# Altium footprint library batteries.PcbLib: 22 footprints (part 1 of 2)
Each footprint in its own frame and in the unit in brackets; x right, y up, seen from the top. Pads: shape width x height; smd on the part's side, far side on the other; paste and mask are expansions set on the pad; w line width, h text height; cw(c..) or ccw(c..) is an arc to the next point about the centre after c.
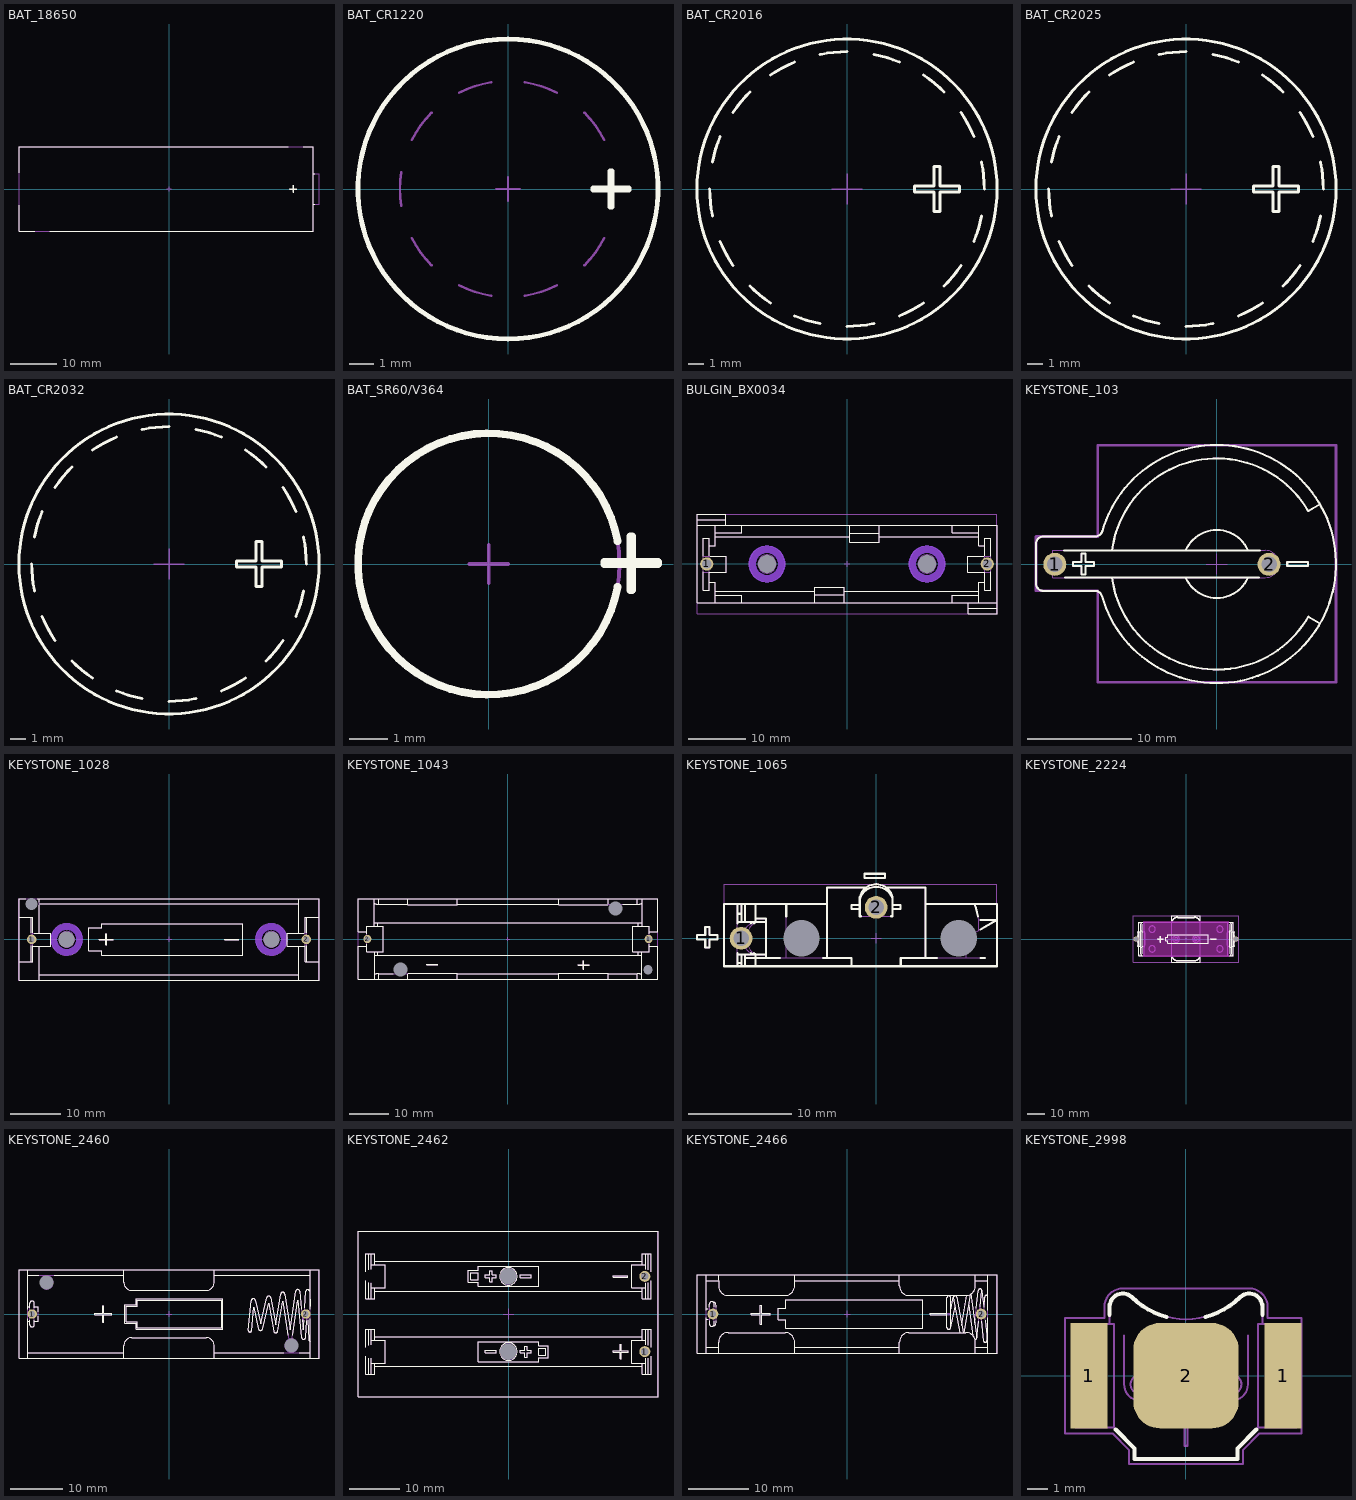
[diagram p0: the footprints below, top view; thin cyan lines are the x and y axes]

## BAT_18650 [mm] "18650, 12.5mm Diameter x 2mm  Height Lithium Coin Cells"
height 18.3
Top Overlay:
  lines w0.2: -32.65,-3.488 -32.65,-9.25 -29.249,-9.25 ; -32.65,3.488 -32.65,9.25 25.951,9.25 ; -25.951,-9.25 31.35,-9.25 31.35,9.25 29.249,9.25 ; 31.35,-3.3 31.754,-3.3 ; 31.35,3.3 31.754,3.3 ; 26.3,0 27,0 27,-0.7 27.1,-0.7 27.1,0 27.8,0 27.8,0.1 27.1,0.1 27.1,0.8 27,0.8 27,0.1 26.3,0.1 26.3,0
Mechanical 1:
  lines w0.1: 31.35,-3.3 32.65,-3.3 32.65,3.3 31.35,3.3 ; -32.65,-9.25 -32.65,9.25 31.35,9.25 31.35,-9.25 -32.65,-9.25
Mechanical 15:
  lines w0.1: -0.5,0 0,0 ; 0,-0.5 0,0 ; 0,0.5 0,0 ; 0.5,0 0,0
3D body "BAT_PANASONIC_NCR18650B.stp": height 18.86, standoff 0.38, extent -32.65,-9.25 32.65,9.25

## BAT_CR1220 [mm] "CR1210, 12.5mm Diameter x 2mm  Height Lithium Coin Cells"
height 2
Top Overlay:
  lines w0.2: 0,-6.25 cw(c0,0) 0,6.25 cw(c0,0) 0,-6.25 ; 3.547,-0.05 3.547,0.05 4.247,0.05 4.247,0.75 4.347,0.75 4.347,0.05 5.047,0.05 5.047,-0.05 4.347,-0.05 4.347,-0.75 4.247,-0.75 4.247,-0.05 3.547,-0.05
Mechanical 1:
  circle w0.1: c0,0 r6.25
  lines w0.1: -4.445,-0.704 cw(c0,0) -4.445,0.704 ; -4.01,-2.043 ccw(c0,0) -3.182,-3.182 ; -4.01,2.043 cw(c0,0) -3.182,3.182 ; -2.043,-4.01 ccw(c0,0) -0.704,-4.445 ; -2.043,4.01 cw(c0,0) -0.704,4.445 ; 0.704,-4.445 ccw(c0,0) 2.043,-4.01 ; 0.704,4.445 cw(c0,0) 2.043,4.01 ; 3.182,-3.182 ccw(c0,0) 4.01,-2.043 ; 3.182,3.182 cw(c0,0) 4.01,2.043
Mechanical 15:
  lines w0.1: -0.5,0 0,0 ; 0,-0.5 0,0 ; 0,0.5 0,0 ; 0.5,0 0,0
3D body "BAT_VARTA_CR1220.stp": height 2, standoff 0, extent -6.25,-6.25 6.25,6.25

## BAT_CR2016 [mm] "CR2016, 20mm Diameter x 1.6mm  Height Lithium Coin Cells"
height 1.6
Top Overlay:
  circle w0.2: c0,0 r10
  lines w0.2: -9.15,0 ccw(c0,0) -8.974,-1.785 ; -8.974,1.785 cw(c0,0) -8.454,3.502 ; -8.454,-3.502 ccw(c0,0) -7.608,-5.083 ; -7.608,5.083 cw(c0,0) -6.47,6.47 ; -6.47,-6.47 ccw(c0,0) -5.083,-7.608 ; -5.083,7.608 cw(c0,0) -3.502,8.454 ; -3.502,-8.454 ccw(c0,0) -1.785,-8.974 ; -1.785,8.974 cw(c0,0) 0,9.15 ; 0,-9.15 ccw(c0,0) 1.785,-8.974 ; 1.785,8.974 cw(c0,0) 3.502,8.454 ; 3.502,-8.454 ccw(c0,0) 5.083,-7.608 ; 5.083,7.608 cw(c0,0) 6.47,6.47 ; 6.47,-6.47 ccw(c0,0) 7.608,-5.083 ; 7.608,5.083 cw(c0,0) 8.454,3.502 ; 8.454,-3.502 ccw(c0,0) 8.974,-1.785 ; 8.974,1.785 cw(c0,0) 9.15,0 ; 4.5,-0.2 4.5,0.2 5.813,0.2 5.813,1.5 6.213,1.5 6.213,0.2 7.5,0.2 7.5,-0.2 6.213,-0.2 6.213,-1.5 5.813,-1.5 5.813,-0.2 4.5,-0.2
Mechanical 1:
  circle w0.1: c0,0 r10
  lines w0.1: -9.15,0 ccw(c0,0) -8.974,-1.785 ; -8.974,1.785 cw(c0,0) -8.454,3.502 ; -8.454,-3.502 ccw(c0,0) -7.608,-5.083 ; -7.608,5.083 cw(c0,0) -6.47,6.47 ; -6.47,-6.47 ccw(c0,0) -5.083,-7.608 ; -5.083,7.608 cw(c0,0) -3.502,8.454 ; -3.502,-8.454 ccw(c0,0) -1.785,-8.974 ; -1.785,8.974 cw(c0,0) 0,9.15 ; 0,-9.15 ccw(c0,0) 1.785,-8.974 ; 1.785,8.974 cw(c0,0) 3.502,8.454 ; 3.502,-8.454 ccw(c0,0) 5.083,-7.608 ; 5.083,7.608 cw(c0,0) 6.47,6.47 ; 6.47,-6.47 ccw(c0,0) 7.608,-5.083 ; 7.608,5.083 cw(c0,0) 8.454,3.502 ; 8.454,-3.502 ccw(c0,0) 8.974,-1.785 ; 8.974,1.785 cw(c0,0) 9.15,0 ; 4.5,-0.2 5.813,-0.2 5.813,-1.5 6.213,-1.5 6.213,-0.2 7.5,-0.2 7.5,0.2 6.213,0.2 6.213,1.5 5.813,1.5 5.813,0.2 4.5,0.2 4.5,-0.2
Mechanical 15:
  lines w0.1: -1,0 0,0 ; 0,-1 0,0 ; 0,1 0,0 ; 1,0 0,0
3D body "BAT_VARTA_CR2016.stp": height 1.6, standoff -0.1, extent -10,-10 10,10

## BAT_CR2025 [mm] "CR2025, 20mm Diameter x 2.5mm  Height Lithium Coin Cells"
height 2.5
Top Overlay:
  circle w0.2: c0,0 r10
  lines w0.2: -9.15,0 ccw(c0,0) -8.974,-1.785 ; -8.974,1.785 cw(c0,0) -8.454,3.502 ; -8.454,-3.502 ccw(c0,0) -7.608,-5.083 ; -7.608,5.083 cw(c0,0) -6.47,6.47 ; -6.47,-6.47 ccw(c0,0) -5.083,-7.608 ; -5.083,7.608 cw(c0,0) -3.502,8.454 ; -3.502,-8.454 ccw(c0,0) -1.785,-8.974 ; -1.785,8.974 cw(c0,0) 0,9.15 ; 0,-9.15 ccw(c0,0) 1.785,-8.974 ; 1.785,8.974 cw(c0,0) 3.502,8.454 ; 3.502,-8.454 ccw(c0,0) 5.083,-7.608 ; 5.083,7.608 cw(c0,0) 6.47,6.47 ; 6.47,-6.47 ccw(c0,0) 7.608,-5.083 ; 7.608,5.083 cw(c0,0) 8.454,3.502 ; 8.454,-3.502 ccw(c0,0) 8.974,-1.785 ; 8.974,1.785 cw(c0,0) 9.15,0 ; 4.5,-0.2 5.813,-0.2 5.813,-1.5 6.213,-1.5 6.213,-0.2 7.5,-0.2 7.5,0.2 6.213,0.2 6.213,1.5 5.813,1.5 5.813,0.2 4.5,0.2 4.5,-0.2
Mechanical 1:
  circle w0.1: c0,0 r10
  lines w0.1: -9.15,0 ccw(c0,0) -8.974,-1.785 ; -8.974,1.785 cw(c0,0) -8.454,3.502 ; -8.454,-3.502 ccw(c0,0) -7.608,-5.083 ; -7.608,5.083 cw(c0,0) -6.47,6.47 ; -6.47,-6.47 ccw(c0,0) -5.083,-7.608 ; -5.083,7.608 cw(c0,0) -3.502,8.454 ; -3.502,-8.454 ccw(c0,0) -1.785,-8.974 ; -1.785,8.974 cw(c0,0) 0,9.15 ; 0,-9.15 ccw(c0,0) 1.785,-8.974 ; 1.785,8.974 cw(c0,0) 3.502,8.454 ; 3.502,-8.454 ccw(c0,0) 5.083,-7.608 ; 5.083,7.608 cw(c0,0) 6.47,6.47 ; 6.47,-6.47 ccw(c0,0) 7.608,-5.083 ; 7.608,5.083 cw(c0,0) 8.454,3.502 ; 8.454,-3.502 ccw(c0,0) 8.974,-1.785 ; 8.974,1.785 cw(c0,0) 9.15,0 ; 4.5,-0.2 4.5,0.2 5.813,0.2 5.813,1.5 6.213,1.5 6.213,0.2 7.5,0.2 7.5,-0.2 6.213,-0.2 6.213,-1.5 5.813,-1.5 5.813,-0.2 4.5,-0.2
Mechanical 15:
  lines w0.1: -1,0 0,0 ; 0,-1 0,0 ; 0,1 0,0 ; 1,0 0,0
3D body "BAT_VARTA_CR2025.stp": height 2.5, standoff 0, extent -10,-10 10,10

## BAT_CR2032 [mm] "CR2032, 20mm Diameter x 32mm  Height Lithium Coin Cells"
height 3.2
Top Overlay:
  circle w0.2: c0,0 r10
  lines w0.2: -9.15,0 ccw(c0,0) -8.974,-1.785 ; -8.974,1.785 cw(c0,0) -8.454,3.502 ; -8.454,-3.502 ccw(c0,0) -7.608,-5.083 ; -7.608,5.083 cw(c0,0) -6.47,6.47 ; -6.47,-6.47 ccw(c0,0) -5.083,-7.608 ; -5.083,7.608 cw(c0,0) -3.502,8.454 ; -3.502,-8.454 ccw(c0,0) -1.785,-8.974 ; -1.785,8.974 cw(c0,0) 0,9.15 ; 0,-9.15 ccw(c0,0) 1.785,-8.974 ; 1.785,8.974 cw(c0,0) 3.502,8.454 ; 3.502,-8.454 ccw(c0,0) 5.083,-7.608 ; 5.083,7.608 cw(c0,0) 6.47,6.47 ; 6.47,-6.47 ccw(c0,0) 7.608,-5.083 ; 7.608,5.083 cw(c0,0) 8.454,3.502 ; 8.454,-3.502 ccw(c0,0) 8.974,-1.785 ; 8.974,1.785 cw(c0,0) 9.15,0 ; 4.5,-0.2 5.813,-0.2 5.813,-1.5 6.213,-1.5 6.213,-0.2 7.5,-0.2 7.5,0.2 6.213,0.2 6.213,1.5 5.813,1.5 5.813,0.2 4.5,0.2 4.5,-0.2
Mechanical 1:
  circle w0.1: c0,0 r10
  lines w0.1: -9.15,0 ccw(c0,0) -8.974,-1.785 ; -8.974,1.785 cw(c0,0) -8.454,3.502 ; -8.454,-3.502 ccw(c0,0) -7.608,-5.083 ; -7.608,5.083 cw(c0,0) -6.47,6.47 ; -6.47,-6.47 ccw(c0,0) -5.083,-7.608 ; -5.083,7.608 cw(c0,0) -3.502,8.454 ; -3.502,-8.454 ccw(c0,0) -1.785,-8.974 ; -1.785,8.974 cw(c0,0) 0,9.15 ; 0,-9.15 ccw(c0,0) 1.785,-8.974 ; 1.785,8.974 cw(c0,0) 3.502,8.454 ; 3.502,-8.454 ccw(c0,0) 5.083,-7.608 ; 5.083,7.608 cw(c0,0) 6.47,6.47 ; 6.47,-6.47 ccw(c0,0) 7.608,-5.083 ; 7.608,5.083 cw(c0,0) 8.454,3.502 ; 8.454,-3.502 ccw(c0,0) 8.974,-1.785 ; 8.974,1.785 cw(c0,0) 9.15,0 ; 4.5,-0.2 4.5,0.2 5.813,0.2 5.813,1.5 6.213,1.5 6.213,0.2 7.5,0.2 7.5,-0.2 6.213,-0.2 6.213,-1.5 5.813,-1.5 5.813,-0.2 4.5,-0.2
Mechanical 15:
  lines w0.1: -1,0 0,0 ; 0,-1 0,0 ; 0,1 0,0 ; 1,0 0,0
3D body "BAT_VARTA_CR2032.stp": height 3.2, standoff 0, extent -10,-10 10,10

## BAT_SR60/V364 [mm] "SR60, 6.8mm Diameter x 2.2mm  Height Silver Oxide Buttun Cell Battery"
height 3.2
Top Overlay:
  lines w0.2: 3.348,-0.59 cw(c0,0) 3.348,0.59 ; 3,0 3,0.05 3.675,0.05 3.675,0.725 3.725,0.725 3.725,0.05 4.4,0.05 4.4,0 3.725,0 3.725,-0.675 3.675,-0.675 3.675,0 3,0
Mechanical 1:
  circle w0.1: c0,0 r3.4
  lines w0.1: 3,0 3,0.05 3.675,0.05 3.675,0.725 3.725,0.725 3.725,0.05 4.4,0.05 4.4,0 3.725,0 3.725,-0.675 3.675,-0.675 3.675,0 3,0
Mechanical 15:
  lines w0.1: -0.5,0 0,0 ; 0,-0.5 0,0 ; 0,0.5 0,0 ; 0.5,0 0,0
3D body "BAT_VARTA_V 364 MF.stp": height 2.2, standoff 0, extent -3.4,-3.4 3.4,3.4

## BULGIN_BX0034 [mm] "THD Battery Holder 1 Cell AAA"
height 24
pads (4):
  round 2.3 hole 1.6: 1(-24.45,0) 2(24.45,0)
  round 1 hole 3.2 unplated mask+1.1: MECH(-13.95,0) MECH(13.95,0)
Bottom Layer keep-out:
  circle w1.29: c13.95,0 r2.555
  circle w1.29: c-13.95,0 r2.555
Top Overlay:
  lines w0.2: -26.15,6.75 -22.95,6.75 ; -26.15,7.7 -21.15,7.7 ; -25.05,1.375 -25.05,4.458 -24.05,4.458 -24.05,1.446 ; -24.05,-3.15 -22.95,-3.15 -22.95,-6.75 ; -24.05,-1.446 -24.05,-4.542 -25.05,-4.542 ; -24.05,3.15 -22.95,3.15 -22.95,6.75 ; -24.037,-1.442 -21.042,-1.442 -21.042,1.358 -23.813,1.358 ; -22.95,-5.45 -18.35,-5.45 -18.35,-6.75 ; -22.95,-4.75 -5.65,-4.75 ; -22.95,4.75 0.45,4.75 ; -22.95,5.45 -18.35,5.45 -18.35,6.75 ; -21.15,6.75 -21.15,8.65 -26.15,8.65 -26.15,-6.75 26.15,-6.75 ; -5.65,-6.75 -5.65,-4.012 -0.45,-4.012 -0.45,-6.75 ; -5.65,-5.35 -0.45,-5.35 ; -0.45,-4.75 22.95,-4.75 ; 0.45,5.35 5.65,5.35 ; 0.45,6.75 0.45,3.75 5.65,3.75 5.65,6.75 ; 5.65,4.75 22.95,4.75 ; 18.35,-6.75 18.35,-5.45 22.95,-5.45 ; 21.15,-7.7 26.15,-7.7 ; 21.15,-6.75 21.15,-8.65 26.15,-8.65 26.15,6.75 22.95,6.75 ; 22.95,-6.75 22.95,-3.15 24.05,-3.15 ; 22.95,5.45 18.35,5.45 18.35,6.75 ; 23.813,1.358 21.042,1.358 21.042,-1.442 24.037,-1.442 ; 24.05,-1.446 24.05,-4.542 25.05,-4.542 ; 24.05,1.446 24.05,4.458 25.05,4.458 25.05,1.375 ; 24.05,3.15 22.95,3.15 22.95,6.75 ; -25.05,-4.542 -25.05,-1.375 -25.05,-4.542 ; -22.95,6.75 -18.35,6.75 ; -18.35,6.75 18.35,6.75 ; 18.35,6.75 22.95,6.75 ; 25.05,-4.542 25.05,-1.375 25.05,-4.542
Mechanical 1:
  circle w0.1: c13.95,0 r1.6
  circle w0.1: c13.95,0 r3.1
  circle w0.1: c-13.95,0 r1.6
  circle w0.1: c-13.95,0 r3.1
  lines w0.1: -26.15,6.75 -22.95,6.75 ; -26.15,7.7 -21.15,7.7 ; -24.05,-3.15 -22.95,-3.15 -22.95,-6.75 ; -24.05,3.15 -22.95,3.15 -22.95,6.75 ; -22.95,-5.45 -18.35,-5.45 -18.35,-6.75 ; -22.95,-4.75 -5.65,-4.75 ; -22.95,4.75 0.45,4.75 ; -22.95,5.45 -18.35,5.45 -18.35,6.75 ; -21.15,6.75 -21.15,8.65 -26.15,8.65 -26.15,-6.75 26.15,-6.75 ; -5.65,-6.75 -5.65,-4.012 -0.45,-4.012 -0.45,-6.75 ; -5.65,-5.35 -0.45,-5.35 ; -0.45,-4.75 22.95,-4.75 ; 0.45,5.35 5.65,5.35 ; 0.45,6.75 0.45,3.75 5.65,3.75 5.65,6.75 ; 5.65,4.75 22.95,4.75 ; 18.35,-6.75 18.35,-5.45 22.95,-5.45 ; 21.15,-7.7 26.15,-7.7 ; 21.15,-6.75 21.15,-8.65 26.15,-8.65 26.15,6.75 22.95,6.75 ; 22.95,-6.75 22.95,-3.15 24.05,-3.15 ; 22.95,5.45 18.35,5.45 18.35,6.75 ; 24.05,3.15 22.95,3.15 22.95,6.75 ; -25.05,-4.542 -24.05,-4.542 -24.05,4.458 -25.05,4.458 ; -25.05,-4.542 -25.05,4.458 ; -25.05,-4.542 -25.05,-1.442 -21.042,-1.442 -21.042,1.358 -25.05,1.358 -25.05,4.458 ; -22.95,6.75 -18.35,6.75 ; -18.35,6.75 18.35,6.75 ; 18.35,6.75 22.95,6.75 ; 25.05,-4.542 25.05,-1.442 21.042,-1.442 21.042,1.358 25.05,1.358 25.05,4.458 ; 25.05,-4.542 25.05,4.458 ; 25.05,-4.542 24.05,-4.542 24.05,4.458 25.05,4.458
Mechanical 15:
  lines w0.1: -0.5,0 0,0 ; 0,-0.5 0,0 ; 0,0.5 0,0 ; 0.5,0 0,0 ; -26.15,-8.654 0.646,-8.654 26.139,-8.654 26.143,8.65 -26.15,8.65 -26.15,-8.654
3D body "BATH_BULGIN_BX0034.stp": height 23.9, standoff -3, extent -26.15,-8.65 26.15,8.65

## KEYSTONE_103 [mm] "Battery Holder for 2016, 2020, 2025, 2032 Lithium Coin Cells"
height 8.5
pads (2):
  round 2.2 hole 1.5: 1(-15.5,-0.031) 2(5,-0.031)
Top Overlay:
  lines w0.2: -14.615,1.302 4.115,1.302 ; -14.528,-1.302 4.028,-1.302 ; -10.016,-1.302 ccw(c0,0) 8.751,-5.043 9.877,-5.692 ; -10.016,1.302 cw(c0,0) 8.738,5.065 9.863,5.717 ; -2.985,-1.302 ccw(c0,0) 2.985,-1.302 ; -2.985,1.302 cw(c0,0) 2.985,1.302 ; -11.763,-0.2 -11.763,0.2 ; -11.763,-0.2 -12.563,-0.2 -12.563,-1 -12.963,-1 -12.963,-0.2 -13.763,-0.2 -13.763,0.2 -12.963,0.2 -12.963,1 -12.563,1 -12.563,0.2 -11.763,0.2 ; -11.763,-0.2 -11.763,0.2 ; 8.737,-0.2 8.737,0.2 ; 8.737,-0.2 6.737,-0.2 6.737,0.2 8.737,0.2 ; 8.737,-0.2 8.737,0.2 ; -17.3,-1.872 ccw(c-16.6,-1.872) -16.6,-2.572 -11.649,-2.572 cw(c-11.649,-3.272) -10.975,-3.083 ccw(c0,0) -10.958,3.143 cw(c-11.631,3.336) -11.631,2.636 -16.6,2.636 ccw(c-16.6,1.936) -17.3,1.936 -17.3,-1.872
Mechanical 1:
  lines w0.1: -10.016,-1.302 ccw(c0,0) 8.751,-5.043 9.877,-5.692 ; -10.016,1.302 cw(c0,0) 8.738,5.065 9.863,5.717 ; -2.985,-1.302 ccw(c0,0) 2.985,-1.302 ; -2.985,1.302 cw(c0,0) 2.985,1.302 ; -11.763,-0.2 -11.763,0.2 ; -11.763,-0.2 -11.763,0.2 ; -11.763,-0.2 -12.563,-0.2 -12.563,-1 -12.963,-1 -12.963,-0.2 -13.763,-0.2 -13.763,0.2 -12.963,0.2 -12.963,1 -12.563,1 -12.563,0.2 -11.763,0.2 ; 8.737,-0.2 8.737,0.2 ; 8.737,-0.2 8.737,0.2 ; 8.737,-0.2 6.737,-0.2 6.737,0.2 8.737,0.2 ; -17.3,-1.872 ccw(c-16.6,-1.872) -16.6,-2.572 -11.649,-2.572 cw(c-11.649,-3.272) -10.975,-3.083 ccw(c0,0) -10.958,3.143 cw(c-11.631,3.336) -11.631,2.636 -16.6,2.636 ccw(c-16.6,1.936) -17.3,1.936 -17.3,-1.872 ; -15.7,-1.302 4.636,-1.302 ccw(c4.636,0) 4.636,1.302 -15.7,1.302 -15.7,-1.302
Mechanical 15:
  lines w0.1: -1,0 0,0 ; 0,-1 0,0 ; 0,1 0,0 ; 1,0 0,0
  lines w0.254: -17.3,-2.575 -11.4,-2.575 -11.4,-11.325 11.4,-11.325 11.4,6.9 11.4,11.375 -11.4,11.375 -11.4,2.625 -17.3,2.625 -17.3,-2.575
3D body "BATH_KEYSTONE_103.stp": height 8.5, standoff -4.8, extent -17.3,-11.391 11.4,11.388

## KEYSTONE_1028 [mm] "THD Battery Holder for AA, LR6, HR6, L91 Cylindrical Batteties Size"
height 24
pads (5):
  round 1.9 hole 1.2: 1(-27.43,0) 2(27.43,0)
  round 1 hole 2.4 unplated mask+0.7: MECH(-27.43,7.09)
  round 1 hole 3.2 unplated mask+1.1: MECH(-20.445,0) MECH(20.445,0)
Bottom Layer keep-out:
  circle w1.29: c-20.445,0 r2.555
  circle w1.29: c20.445,0 r2.555
Top Overlay:
  lines w0.2: -29.972,-4.445 -27.254,-4.445 -27.254,-1.288 ; -29.972,4.445 -27.254,4.445 -27.254,1.288 ; -28.581,8.128 -29.972,8.128 -29.972,-8.128 29.972,-8.128 29.972,8.128 -26.279,8.128 ; -27.559,-4.445 -27.559,-1.294 ; -27.559,1.294 -27.559,4.445 ; -27.254,-1.359 -23.602,-1.359 -23.602,1.181 -26.887,1.181 ; -25.908,-8.128 -25.908,-1.359 ; -25.908,-7.112 25.908,-7.112 ; -25.908,1.181 -25.908,6.797 ; -25.908,7.383 -25.908,8.128 ; -25.88,7.112 25.908,7.112 ; 25.908,-8.128 25.908,-1.359 ; 25.908,1.181 25.908,8.128 ; 26.887,1.181 23.602,1.181 23.602,-1.359 27.254,-1.359 ; 27.254,-1.288 27.254,-4.445 29.972,-4.445 ; 27.254,1.288 27.254,4.445 29.972,4.445 ; 27.559,-4.445 27.559,-1.294 ; 27.559,1.294 27.559,4.445 ; -16.002,-2.28 -16.002,2.292 -13.462,2.292 -13.462,3.175 14.732,3.175 14.732,-3.175 -13.462,-3.175 -13.462,-2.28 -16.002,-2.28 ; -13.97,-0.076 -13.97,0.076 -12.636,0.076 -12.636,1.115 -12.484,1.115 -12.484,0.076 -11.151,0.076 -11.151,-0.076 -12.484,-0.076 -12.484,-1.115 -12.636,-1.115 -12.636,-0.076 -13.97,-0.076 ; 11.151,-0.076 13.97,-0.076 13.97,0.076 11.151,0.076 11.151,-0.076
Mechanical 1:
  circle w0.1: c20.447,0 r1.587
  circle w0.1: c-20.447,0 r1.587
  lines w0.1: -29.972,-4.445 -27.254,-4.445 -27.254,4.445 -29.972,4.445 ; -27.559,-4.445 -27.559,4.445 ; -27.254,-1.359 -23.602,-1.359 -23.602,1.181 -27.254,1.181 ; -25.908,-8.128 -25.908,-1.359 ; -25.908,-7.112 25.908,-7.112 ; -25.908,1.181 -25.908,8.128 ; -25.908,7.112 25.908,7.112 ; -23.602,-0.354 ccw(c-20.447,0) -23.602,0.354 ; 23.602,-0.354 cw(c20.447,0) 23.602,0.354 ; 25.908,-8.128 25.908,-1.359 ; 25.908,1.181 25.908,8.128 ; 27.254,-1.359 23.602,-1.359 23.602,1.181 27.254,1.181 ; 27.559,-4.445 27.559,4.445 ; 29.972,-4.445 27.254,-4.445 27.254,4.445 29.972,4.445 ; -29.972,-8.128 29.972,-8.128 29.972,8.128 -29.972,8.128 -29.972,-8.128 ; -16.002,-2.28 -13.462,-2.263 -13.462,-3.175 14.732,-3.175 14.732,3.175 -13.462,3.175 -13.462,2.292 -16.002,2.292 -16.002,-2.28 ; -13.97,-0.076 -12.636,-0.076 -12.636,-1.115 -12.484,-1.115 -12.484,-0.076 -11.151,-0.076 -11.151,0.076 -12.484,0.076 -12.484,1.115 -12.636,1.115 -12.636,0.076 -13.97,0.076 -13.97,-0.076 ; 11.151,-0.076 13.97,-0.076 13.97,0.076 11.151,0.076 11.151,-0.076
Mechanical 15:
  lines w0.1: -0.5,0 0,0 ; 0,-0.5 0,0 ; 0,0.5 0,0 ; 0.5,0 0,0 ; -29.975,-8.131 29.969,-8.131 29.969,8.125 -29.975,8.125 -29.975,-8.131
3D body "BATH_KEYSTONE_1028.stp": height 15.24, standoff -3.55, extent -29.972,-8.128 29.972,8.128

## KEYSTONE_1043 [mm] "THD Battery Holder for 18650 Cylindrical Batteties Size"
height 14.86
pads (5):
  round 2.1 hole 1.4: 1(36.11,0) 2(-36.11,0)
  round 1 hole 3.6 unplated mask+1.3: MECH(-27.6,-7.87) MECH(27.6,7.87)
  round 1 hole 2.4 unplated mask+0.7: MECH(35.98,-7.87)
Top Overlay:
  lines w0.2: -36.284,-1.905 -38.532,-1.905 -38.532,-10.325 38.532,-10.325 38.532,-1.905 36.284,-1.905 ; -36.284,-1.389 -36.284,-3.238 -32.004,-3.238 -32.004,3.238 -36.284,3.238 -36.284,1.389 ; -36.284,1.905 -38.532,1.905 -38.532,10.325 38.532,10.325 38.532,1.905 36.284,1.905 ; -34.417,-9.188 cw(c-33.379,-11.011) -33.147,-8.926 ; -34.417,-4.125 34.417,-4.125 ; -34.417,-3.238 -34.387,-10.325 ; -34.417,3.238 -34.417,10.325 ; -34.417,4.125 34.417,4.125 ; -34.417,9.188 ccw(c-33.379,11.011) -33.147,8.926 ; -33.401,-4.125 -33.401,-3.238 ; -33.401,3.238 -33.401,4.125 ; -33.147,-10.325 -33.147,-8.926 ; -33.147,10.325 -33.147,8.926 ; -29.473,-8.926 -33.147,-8.926 ; -25.781,-10.325 -25.781,-9.016 ; -25.781,8.926 -33.147,8.926 ; -25.781,10.325 -25.781,8.787 -13.081,8.787 -13.081,10.325 ; -25.655,-8.787 -13.081,-8.787 -13.081,-10.325 ; -13.081,-8.926 13.081,-8.926 ; -13.081,8.926 13.081,8.926 ; 13.081,-10.325 13.081,-8.787 25.781,-8.787 25.781,-10.325 ; 13.081,10.325 13.081,8.787 25.655,8.787 ; 25.781,-8.926 33.147,-8.926 ; 25.781,9.016 25.781,10.325 ; 29.473,8.926 33.147,8.926 ; 33.147,-10.325 33.147,-8.926 ; 33.147,10.325 33.147,8.926 ; 33.401,-4.125 33.401,-3.238 ; 33.401,3.238 33.409,4.125 ; 34.417,-10.325 34.417,-3.238 ; 34.417,-9.188 ccw(c33.379,-11.011) 33.147,-8.926 ; 34.417,9.188 cw(c33.379,11.011) 33.147,8.926 ; 34.438,3.238 34.438,10.325 ; 36.284,-1.389 36.284,-3.238 32.004,-3.238 32.004,3.238 36.284,3.238 36.284,1.389 ; -20.841,-6.672 -18.021,-6.672 -18.021,-6.52 -20.841,-6.52 -20.841,-6.672 ; 18.021,-6.748 18.021,-6.596 19.355,-6.596 19.355,-5.557 19.507,-5.557 19.507,-6.596 20.841,-6.596 20.841,-6.748 19.507,-6.748 19.507,-7.787 19.355,-7.787 19.355,-6.748 18.021,-6.748
Mechanical 1:
  lines w0.1: -36.284,-1.905 -38.532,-1.905 -38.532,-10.325 38.532,-10.325 38.532,-1.905 36.284,-1.905 ; -36.284,1.905 -38.532,1.905 -38.532,10.325 38.532,10.325 38.532,1.905 36.284,1.905 ; -34.417,-9.188 cw(c-33.379,-11.011) -33.147,-8.926 ; -34.417,-4.125 34.417,-4.125 ; -34.417,-3.238 -34.387,-10.325 ; -34.417,3.238 -34.417,10.325 ; -34.417,4.125 34.417,4.125 ; -34.417,9.188 ccw(c-33.379,11.011) -33.147,8.926 ; -33.401,-4.125 -33.401,-3.238 ; -33.401,3.238 -33.401,4.125 ; -33.147,-10.325 -33.147,-8.926 ; -33.147,10.325 -33.147,8.926 ; -25.781,-10.325 -25.781,-8.787 -13.081,-8.787 -13.081,-10.325 ; -25.781,-8.926 -33.147,-8.926 ; -25.781,8.926 -33.147,8.926 ; -25.781,10.325 -25.781,8.787 -13.081,8.787 -13.081,10.325 ; -13.081,-8.926 13.081,-8.926 ; -13.081,8.926 13.081,8.926 ; 13.081,-10.325 13.081,-8.787 25.781,-8.787 25.781,-10.325 ; 13.081,10.325 13.081,8.787 25.781,8.787 25.781,10.325 ; 25.781,-8.926 33.147,-8.926 ; 25.781,8.926 33.147,8.926 ; 33.147,-10.325 33.147,-8.926 ; 33.147,10.325 33.147,8.926 ; 33.401,-4.125 33.401,-3.238 ; 33.401,3.238 33.409,4.125 ; 34.417,-10.325 34.417,-3.238 ; 34.417,-9.188 ccw(c33.379,-11.011) 33.147,-8.926 ; 34.417,9.188 cw(c33.379,11.011) 33.147,8.926 ; 34.438,3.238 34.438,10.325 ; -36.284,-3.238 -32.004,-3.238 -32.004,3.238 -36.284,3.238 -36.284,-3.238 ; -20.841,-6.672 -18.021,-6.672 -18.021,-6.52 -20.841,-6.52 -20.841,-6.672 ; 18.021,-6.748 19.355,-6.748 19.355,-7.787 19.507,-7.787 19.507,-6.748 20.841,-6.748 20.841,-6.596 19.507,-6.596 19.507,-5.557 19.355,-5.557 19.355,-6.596 18.021,-6.596 18.021,-6.748 ; 32.004,-3.238 32.004,3.238 36.284,3.238 36.284,-3.238 32.004,-3.238
Mechanical 15:
  lines w0.05: -0.5,0 0,0 ; 0,-0.5 0,0 ; 0,0.5 0,0 ; 0.5,0 0,0
  lines w0.1: -38.525,-10.325 -38.525,-1.905 -38.525,10.325 38.539,10.325 38.539,-1.905 38.539,-10.325 -38.525,-10.325
3D body "BATH_KEYSTONE_1043.stp": height 14.86, standoff -3.56, extent -38.532,-10.325 38.532,10.325

## KEYSTONE_1065 [mm] "SMD Battery Holders for BR2012,CR2012,BR2016, CR2016, DL2016, BR2020, CL2020, BR2025, CR2025, DL2025, BR2032, CR2032, DL2032, ANSI 5000LC, IEC CR2016 Coin Cells"
height 25.4
pads (4):
  round 2.2 hole 1.5: 1(-13.08,0) 2(0,3)
  round 0.5 hole 3.5 unplated mask+1.5: HOLE(-7.24,0) HOLE(8,0)
Top Overlay:
  lines w0.2: -13.432,-2.713 -13.432,-1.45 ; -13.432,-2.375 -13.025,-2.375 -13.025,-1.587 ; -13.432,-1.587 -10.663,-1.587 ; -13.432,1.45 -13.432,3.332 ; -13.432,1.587 -10.663,1.587 ; -13.432,2.375 -13.025,2.375 -13.025,1.587 ; -13.048,-2.713 -13.048,-2.375 ; -13.048,2.375 -13.048,3.332 ; -12.681,-2.713 -12.681,-1.587 ; -12.681,-1.9 -9.34,-1.9 ; -12.681,1.587 -12.681,3.332 ; -12.137,-1.45 ccw(c-11.381,-0.214) -11.842,-1.588 ; -12.137,1.45 cw(c-11.381,0.214) -11.842,1.588 ; -11.816,-1.45 ccw(c-11.058,-0.21) -11.522,-1.587 ; -11.816,1.45 cw(c-11.058,0.21) -11.522,1.588 ; -11.679,-2.713 -11.679,-1.587 ; -11.679,1.587 -11.679,3.332 ; -11.679,1.91 -10.663,1.91 -10.663,-1.9 ; -8.707,2.1 -8.707,3.332 ; -5.14,-1.9 -2.37,-1.9 -2.37,-2.713 ; -4.758,-1.9 -4.758,4.907 -1.078,4.907 ; -4.758,3.332 -14.727,3.332 -14.727,-2.713 11.689,-2.713 11.689,3.332 4.767,3.332 ; -1.587,2.824 -2.375,2.824 -2.375,3.231 -1.587,3.231 ; -1.587,3.778 cw(c0,3.338) 1.588,3.78 ; -1.45,2.133 -1.587,2.133 -1.587,3.741 -1.587,3.991 cw(c0,3.602) 1.587,3.991 1.587,3.741 1.587,2.133 1.45,2.133 ; -0.008,5.236 0.008,5.236 ; 1.078,4.907 4.767,4.907 4.767,-1.9 ; 1.587,2.824 2.375,2.824 2.375,3.231 1.587,3.231 ; 2.38,-2.713 2.38,-1.9 5.9,-1.9 ; 9.51,3.332 cw(c0.005,-0.071) 9.865,2.1 ; 10.1,-1.9 10.517,-1.9 ; 10.1,0.866 10.517,1.106 11.689,1.783 10.1,1.783 ; -15.35,-0.1 -15.35,0.3 ; -15.35,-0.1 -16.15,-0.1 -16.15,-0.9 -16.55,-0.9 -16.55,-0.1 -17.35,-0.1 -17.35,0.3 -16.55,0.3 -16.55,1.1 -16.15,1.1 -16.15,0.3 -15.35,0.3 ; -15.35,-0.1 -15.35,0.3 ; 0.875,5.85 0.875,6.25 ; 0.875,5.85 -1.125,5.85 -1.125,6.25 0.875,6.25 ; 0.875,5.85 0.875,6.25
Mechanical 1:
  lines w0.1: -13.432,-2.713 -13.432,3.332 ; -13.432,-2.375 -13.025,-2.375 -13.025,-1.587 ; -13.432,-1.587 -10.663,-1.587 ; -13.432,1.587 -10.663,1.587 ; -13.432,2.375 -13.025,2.375 -13.025,1.587 ; -13.048,-2.713 -13.048,-2.375 ; -13.048,2.375 -13.048,3.332 ; -12.681,-2.713 -12.681,-1.587 ; -12.681,1.587 -12.681,3.332 ; -12.511,-0.21 ccw(c-11.058,-0.21) -11.522,-1.587 ; -12.511,-0.21 -12.511,0.21 cw(c-11.058,0.21) -11.522,1.588 ; -11.842,-1.588 cw(c-11.381,-0.214) -12.83,-0.214 -12.83,0.214 cw(c-11.381,0.214) -11.842,1.588 ; -11.679,-2.713 -11.679,-1.587 ; -11.679,-1.9 -2.37,-1.9 -2.37,-2.713 ; -11.679,1.587 -11.679,3.332 ; -11.679,1.91 -10.663,1.91 -10.663,-1.9 ; -8.707,-1.9 -8.707,3.332 ; -4.758,-1.9 -4.758,4.907 -1.078,4.907 ; -4.758,3.332 -14.727,3.332 -14.727,-2.713 11.689,-2.713 11.689,3.332 4.767,3.332 ; -1.587,2.824 -2.375,2.824 -2.375,3.231 -1.587,3.231 ; -1.587,3.778 cw(c0,3.338) 1.588,3.78 ; -0.008,5.236 0.008,5.236 ; 1.078,4.907 4.767,4.907 4.767,-1.9 ; 1.587,2.824 2.375,2.824 2.375,3.231 1.587,3.231 ; 2.38,-2.713 2.38,-1.9 10.517,-1.9 ; 8.717,-1.9 8.717,0.067 10.517,1.106 11.689,1.783 9.93,1.783 ; 9.51,3.332 cw(c0.005,-0.071) 9.93,1.783 ; 9.93,0.767 9.93,1.783 ; -15.35,-0.1 -15.35,0.3 ; -15.35,-0.1 -15.35,0.3 ; -15.35,-0.1 -16.15,-0.1 -16.15,-0.9 -16.55,-0.9 -16.55,-0.1 -17.35,-0.1 -17.35,0.3 -16.55,0.3 -16.55,1.1 -16.15,1.1 -16.15,0.3 -15.35,0.3 ; 0.875,5.85 0.875,6.25 ; 0.875,5.85 0.875,6.25 ; 0.875,5.85 -1.125,5.85 -1.125,6.25 0.875,6.25 ; -1.587,2.133 1.587,2.133 1.587,3.741 1.587,3.991 ccw(c0,3.602) -1.587,3.991 -1.587,3.741 -1.587,2.133
Mechanical 15:
  lines w0.1: -0.5,0 0.5,0 ; 0,-0.5 0,0.5 ; -14.725,-2.725 11.7,-2.725 11.7,5.25 -14.725,5.25 -14.725,-2.725
3D body "BATH_KEYSTONE_1065.stp": height 23.32, standoff -3.98, extent -14.727,-2.713 11.689,5.236

## KEYSTONE_2224 [mm] "THD Battery Holder for 1 Cell C Size"
height 24.61
pads (2):
  round 2.8 hole 2.1: 1(-28.17,0) 2(28.17,0)
Top Layer keep-out:
  region: -24,10 24,10 24,-10 -24,-10
Top Overlay:
  lines w0.2: -27.332,-1.536 ccw(c-3.522,0) -27.05,-3.962 ccw(c-49.003,0) -26.716,-0.974 ; -27.332,1.536 cw(c-3.522,0) -27.05,3.962 ; -27.053,-3.962 -25.732,-3.962 ccw(c-53.996,0) -25.732,3.962 -27.05,3.962 ; -26.716,0.974 ccw(c-49.003,0) -27.05,3.962 ; -26.587,-3.962 -26.587,-9.525 -24.35,-9.525 ; -26.587,3.962 -26.587,9.525 -24.35,9.525 ; -26.543,-3.962 ccw(c-54.806,0) -26.543,3.962 ; -25.732,-9.525 ccw(c-42.672,-5.957) -25.401,-4.775 ; -25.732,9.525 cw(c-42.672,5.957) -25.401,4.775 ; -24.921,-9.525 ccw(c-41.861,-5.957) -24.59,-4.775 ; -24.921,9.525 cw(c-41.861,5.957) -24.59,4.775 ; -24.59,-3.962 -24.35,-3.962 ; -24.59,3.962 -24.35,3.962 ; -7.938,-10.35 -7.938,-13.088 7.938,-13.088 7.938,-10.35 ; -7.938,10.35 -7.938,13.088 7.938,13.088 7.938,10.35 ; -7.801,-10.35 ccw(c-4.785,-8.79) -4.763,-12.186 ; -7.801,10.35 cw(c-4.785,8.79) -4.763,12.186 ; -7.646,-10.35 ccw(c-4.86,-8.706) -4.762,-11.939 ; -7.646,10.35 cw(c-4.86,8.706) -4.762,11.939 ; 7.646,-10.35 cw(c4.86,-8.706) 4.762,-11.939 ; 7.646,10.35 ccw(c4.86,8.706) 4.762,11.939 ; 7.801,-10.35 cw(c4.785,-8.79) 4.763,-12.186 ; 7.801,10.35 ccw(c4.785,8.79) 4.763,12.186 ; 24.35,-9.525 26.587,-9.525 26.587,-3.962 ; 24.35,-3.962 24.59,-3.962 ; 24.35,3.962 24.59,3.962 ; 24.35,9.525 26.587,9.525 26.587,3.962 ; 24.921,-9.525 cw(c41.861,-5.957) 24.59,-4.775 ; 24.921,9.525 ccw(c41.861,5.957) 24.59,4.775 ; 25.732,-9.525 cw(c42.672,-5.957) 25.401,-4.775 ; 25.732,9.525 ccw(c42.672,5.957) 25.401,4.775 ; 26.543,-3.962 cw(c54.806,0) 26.543,3.962 ; 26.716,-0.974 ccw(c49.003,0) 27.05,-3.962 ccw(c3.522,0) 27.332,-1.536 ; 26.716,0.974 cw(c49.003,0) 27.05,3.962 ; 27.053,-3.962 25.732,-3.962 cw(c53.996,0) 25.732,3.962 27.05,3.962 ; 27.332,1.536 ccw(c3.522,0) 27.05,3.962 ; -25.401,-4.775 -24.59,-4.775 ; -25.401,-4.775 -25.401,4.775 ; -25.401,4.775 -24.59,4.775 ; -24.59,-4.775 -24.59,4.775 ; -4.763,-12.186 -4.763,-11.939 ; -4.763,-12.186 4.763,-12.186 ; -4.763,-11.939 4.763,-11.939 ; -4.763,11.939 -4.763,12.186 ; -4.763,11.939 4.763,11.939 ; -4.763,12.186 4.763,12.186 ; 4.763,-12.186 4.763,-11.939 ; 4.763,11.939 4.763,12.186 ; 24.59,-4.775 25.401,-4.775 ; 24.59,-4.775 24.59,4.775 ; 24.59,4.775 25.401,4.775 ; 25.401,-4.775 25.401,4.775 ; -15.938,-0.127 -14.478,-0.127 -14.478,-1.714 -14.224,-1.714 -14.224,-0.127 -12.763,-0.127 -12.763,0.127 -14.224,0.127 -14.224,1.46 -14.478,1.46 -14.478,0.127 -15.938,0.127 -15.938,-0.127 ; -11.493,-0.953 -10.223,-0.953 -10.223,-2.349 12.636,-2.349 12.636,2.349 -10.223,2.349 -10.223,0.953 -11.493,0.953 -11.493,-0.953 ; 13.906,-0.127 13.906,0.127 17.081,0.127 17.081,-0.127 13.906,-0.127
Mechanical 1:
  circle w0.1: c19.05,5.563 r1.778
  circle w0.1: c5.55,0 r0.889
  circle w0.1: c5.55,0 r1.905
  circle w0.1: c19.05,-5.563 r1.778
  circle w0.1: c-5.55,0 r0.889
  circle w0.1: c-5.55,0 r1.905
  circle w0.1: c-19.05,5.563 r1.778
  circle w0.1: c-19.05,-5.563 r1.778
  lines w0.1: -27.362,-0.953 -28.755,-0.953 -28.755,0.953 -27.362,0.953 ; -27.053,-3.962 -25.732,-3.962 ccw(c-53.996,0) -25.732,3.962 -27.05,3.962 ; -26.587,-3.962 -26.587,-9.525 -7.938,-9.525 ; -26.587,3.962 -26.587,9.525 -7.938,9.525 ; -26.543,-3.962 ccw(c-54.806,0) -26.543,3.962 ; -25.732,-9.525 ccw(c-42.672,-5.957) -25.401,-4.775 ; -25.732,9.525 cw(c-42.672,5.957) -25.401,4.775 ; -24.921,-9.525 ccw(c-41.861,-5.957) -24.59,-4.775 ; -24.921,9.525 cw(c-41.861,5.957) -24.59,4.775 ; -24.59,-3.962 -23.35,-3.962 ccw(c-51.614,0) -23.35,3.962 -24.59,3.962 ; -23.412,-9.525 -23.412,-3.962 ; -23.412,3.962 -23.412,9.525 ; -7.938,-10.268 -7.843,-10.268 ccw(c-4.785,-8.79) -4.763,-12.186 ; -7.937,-9.703 ccw(c-4.86,-8.706) -4.762,-11.939 ; -7.938,-9.411 7.938,-9.411 ; -7.938,9.411 7.938,9.411 ; -7.937,9.703 cw(c-4.86,8.706) -4.762,11.939 ; -7.938,10.268 -7.843,10.268 cw(c-4.785,8.79) -4.763,12.186 ; 7.938,-10.268 7.843,-10.268 cw(c4.785,-8.79) 4.763,-12.186 ; 7.937,-9.703 cw(c4.86,-8.706) 4.762,-11.939 ; 7.938,-9.525 26.587,-9.525 26.587,-3.962 ; 7.938,9.525 26.587,9.525 26.587,3.962 ; 7.937,9.703 ccw(c4.86,8.706) 4.762,11.939 ; 7.938,10.268 7.843,10.268 ccw(c4.785,8.79) 4.763,12.186 ; 23.412,-9.525 23.412,-3.962 ; 23.412,3.962 23.412,9.525 ; 24.59,-3.962 23.35,-3.962 cw(c51.614,0) 23.35,3.962 24.59,3.962 ; 24.921,-9.525 cw(c41.861,-5.957) 24.59,-4.775 ; 24.921,9.525 ccw(c41.861,5.957) 24.59,4.775 ; 25.732,-9.525 cw(c42.672,-5.957) 25.401,-4.775 ; 25.732,9.525 ccw(c42.672,5.957) 25.401,4.775 ; 26.543,-3.962 cw(c54.806,0) 26.543,3.962 ; 27.053,-3.962 25.732,-3.962 cw(c53.996,0) 25.732,3.962 27.05,3.962 ; 27.362,-0.953 28.755,-0.953 28.755,0.953 27.362,0.953 ; -27.05,3.962 cw(c-49.003,0) -27.05,-3.962 cw(c-3.522,0) -27.05,3.962 ; -25.401,-4.775 -25.401,4.775 ; -25.401,-4.775 -24.59,-4.775 ; -25.401,4.775 -24.59,4.775 ; -24.59,-4.775 -24.59,4.775 ; -4.763,-12.186 4.763,-12.186 ; -4.763,-12.186 -4.763,-11.939 ; -4.763,-11.939 4.763,-11.939 ; -4.763,11.939 4.763,11.939 ; -4.763,11.939 -4.763,12.186 ; -4.763,12.186 4.763,12.186 ; 4.763,-12.186 4.763,-11.939 ; 4.763,11.939 4.763,12.186 ; 24.59,-4.775 24.59,4.775 ; 24.59,-4.775 25.401,-4.775 ; 24.59,4.775 25.401,4.775 ; 25.401,-4.775 25.401,4.775 ; 27.05,3.962 ccw(c49.003,0) 27.05,-3.962 ccw(c3.522,0) 27.05,3.962 ; -23.35,-4.254 ccw(c-53.697,0) -23.35,4.254 -23.097,4.255 cw(c-53.444,0) -23.097,-4.254 -23.35,-4.255 ; -15.938,-0.127 -15.938,0.127 -14.478,0.127 -14.478,1.46 -14.224,1.46 -14.224,0.127 -12.763,0.127 -12.763,-0.127 -14.224,-0.127 -14.224,-1.714 -14.478,-1.714 -14.478,-0.127 -15.938,-0.127 ; -11.493,-0.953 -11.493,0.953 -10.223,0.953 -10.223,2.349 12.636,2.349 12.636,-2.349 -10.223,-2.349 -10.223,-0.953 -11.493,-0.953 ; -7.938,-13.088 -7.938,13.088 7.938,13.088 7.938,-13.088 -7.938,-13.088 ; 13.906,-0.127 13.906,0.127 17.081,0.127 17.081,-0.127 13.906,-0.127 ; 23.097,-4.254 cw(c53.444,0) 23.097,4.254 23.35,4.255 ccw(c53.697,0) 23.35,-4.254 23.097,-4.255
Mechanical 15:
  lines w0.1: -0.5,0 0,0 ; 0,-0.5 0,0 ; 0,0.5 0,0 ; 0.5,0 0,0 ; -29.725,-13.075 29.725,-13.075 29.725,13.075 -29.725,13.075 -29.725,-13.075
3D body "BATH_KEYSTONE_2224.stp": height 25.05, standoff -9.34, extent -28.821,-13.081 28.822,13.082

## KEYSTONE_2460 [mm] "THD Battery Holder for AA, LR6, Cylindrical Batteties Size"
height 14.39
pads (4):
  round 1.8 hole 1.1: 1(-25.995,0) 2(25.995,0)
  round 1 hole 2.65 unplated mask+0.825: MECH(-23.24,5.995) MECH(23.24,-5.995)
Top Overlay:
  lines w0.2: -26.848,-8.445 -26.848,-0.914 ; -26.848,-7.378 -8.572,-7.378 ; -26.848,-1.372 -26.434,-1.372 ; -26.848,-1.333 -26.434,-1.333 ; -26.848,0.914 -26.848,8.445 ; -26.848,1.333 -26.434,1.333 ; -26.848,1.372 -26.434,1.372 ; -26.848,7.378 -24.719,7.378 ; -26.434,-1.17 -26.434,-2.019 ccw(c-26.002,-2.019) -25.57,-2.019 -25.57,-1.176 ; -26.434,1.17 -26.434,2.019 cw(c-26.002,2.019) -25.57,2.019 -25.57,1.176 ; -25.57,-1.372 -24.816,-1.372 -24.816,-0.415 ; -25.57,1.372 -24.816,1.372 -24.816,0.415 ; -21.761,7.378 -8.572,7.378 ; -8.572,-8.445 -8.572,-6.007 cw(c-7.046,-6.009) -7.049,-4.483 7.048,-4.483 cw(c7.048,-6.008) 8.572,-6.007 8.572,-8.445 ; -8.572,8.445 -8.572,6.007 ccw(c-7.048,6.008) -7.049,4.483 7.048,4.483 ccw(c7.048,6.008) 8.572,6.007 8.572,8.445 ; 8.572,-7.378 21.763,-7.378 ; 8.572,7.378 26.848,7.378 ; 22.606,-4.071 21.601,2.444 20.682,-3.234 cw(c20.287,-3.17) 19.894,-3.242 18.926,2.03 17.782,-2.827 cw(c17.392,-2.735) 17.002,-2.821 16.102,1.242 15.676,-3.166 cw(c15.377,-3.137) 15.079,-3.108 15.626,2.556 cw(c16.024,2.518) 16.414,2.604 17.398,-1.837 18.561,3.097 cw(c18.951,3.006) 19.344,3.078 20.275,-1.994 21.21,3.789 cw(c21.605,3.725) 22,3.786 23.049,-3.007 24.065,4.32 cw(c24.461,4.265) 24.858,4.309 25.169,0.938 ; 23.519,-3.989 24.437,2.639 25.167,-4.447 ccw(c25.565,-4.403) 25.963,-4.447 26.192,-1.234 ; 24.719,-7.378 26.848,-7.378 ; 25.353,-1.073 25.531,-3.007 25.65,-1.201 ; 25.809,1.236 26.011,4.314 cw(c26.36,4.287) 26.71,4.304 26.848,1.456 ; 26.375,-1.191 26.548,-4.752 ccw(c27.147,-4.723) 26.848,-5.242 ; 26.848,-8.445 26.848,-0.914 ; 26.848,0.914 26.848,8.402 ; -28.499,-8.445 -28.499,8.445 28.499,8.445 28.499,-8.445 -28.499,-8.445 ; -14.084,-0.127 -12.624,-0.127 -12.624,-1.587 -12.37,-1.587 -12.37,-0.127 -10.909,-0.127 -10.909,0.127 -12.37,0.127 -12.37,1.587 -12.624,1.587 -12.624,0.127 -14.084,0.127 -14.084,-0.127 ; -8.369,-1.727 -8.369,1.727 -6.248,1.727 -6.248,2.87 10.236,2.87 10.236,-2.87 -6.248,-2.87 -6.248,-1.727 -8.369,-1.727 ; -8.115,-1.473 -8.115,1.473 -5.994,1.473 -5.994,2.616 9.982,2.616 9.982,-2.616 -5.994,-2.616 -5.994,-1.473 -8.115,-1.473
Mechanical 1:
  circle w0.1: c-23.241,5.994 r1.245
  circle w0.1: c23.241,-5.994 r1.245
  lines w0.1: -26.848,-8.445 -26.848,8.445 ; -26.848,-7.378 -8.572,-7.378 ; -26.848,-1.372 -26.434,-1.372 ; -26.848,-1.333 -26.434,-1.333 ; -26.848,1.333 -26.434,1.333 ; -26.848,1.372 -26.434,1.372 ; -26.848,7.378 -8.572,7.378 ; -25.57,-1.372 -24.816,-1.372 -24.816,1.372 -25.57,1.372 ; -8.572,-8.445 -8.572,-6.007 cw(c-7.046,-6.009) -7.049,-4.483 7.048,-4.483 cw(c7.048,-6.008) 8.572,-6.007 8.572,-8.445 ; -8.572,8.445 -8.572,6.007 ccw(c-7.048,6.008) -7.049,4.483 7.048,4.483 ccw(c7.048,6.008) 8.572,6.007 8.572,8.445 ; 8.572,-7.378 26.848,-7.378 ; 8.572,7.378 26.848,7.378 ; 26.848,-8.445 26.848,8.402 ; 26.848,-5.242 cw(c27.147,-4.723) 26.548,-4.752 26.302,0.32 25.963,-4.447 cw(c25.565,-4.403) 25.167,-4.447 24.437,2.639 23.456,-4.441 cw(c23.06,-4.386) 22.664,-4.447 21.601,2.444 20.682,-3.234 cw(c20.287,-3.17) 19.894,-3.242 18.926,2.03 17.782,-2.827 cw(c17.392,-2.735) 17.002,-2.821 16.102,1.242 15.676,-3.166 cw(c15.377,-3.137) 15.079,-3.108 15.626,2.556 cw(c16.024,2.518) 16.414,2.604 17.398,-1.837 18.561,3.097 cw(c18.951,3.006) 19.344,3.078 20.275,-1.994 21.21,3.789 cw(c21.605,3.725) 22,3.786 23.049,-3.007 24.065,4.32 cw(c24.461,4.265) 24.858,4.309 25.531,-3.007 26.011,4.314 cw(c26.36,4.287) 26.71,4.304 26.848,1.456 ; -28.499,-8.445 -28.499,8.445 28.499,8.445 28.499,-8.445 -28.499,-8.445 ; -26.434,-2.019 ccw(c-26.002,-2.019) -25.57,-2.019 -25.57,2.019 ccw(c-26.002,2.019) -26.434,2.019 -26.434,-2.019 ; -14.084,-0.127 -12.624,-0.127 -12.624,-1.587 -12.37,-1.587 -12.37,-0.127 -10.909,-0.127 -10.909,0.127 -12.37,0.127 -12.37,1.587 -12.624,1.587 -12.624,0.127 -14.084,0.127 -14.084,-0.127 ; -8.369,-1.727 -6.248,-1.727 -6.248,-2.87 10.236,-2.87 10.236,2.87 -6.248,2.87 -6.248,1.727 -8.369,1.727 -8.369,-1.727 ; -8.115,-1.473 -5.994,-1.473 -5.994,-2.616 9.982,-2.616 9.982,2.616 -5.994,2.616 -5.994,1.473 -8.115,1.473 -8.115,-1.473
Mechanical 15:
  lines w0.1: -0.5,0 0,0 ; 0,-0.5 0,0 ; 0,0.5 0,0 ; 0.5,0 0,0 ; -28.5,-8.441 -28.5,8.45 28.498,8.45 28.498,-8.441 -28.5,-8.441
3D body "BATH_KEYSTONE_2460.stp": height 13.89, standoff -13, extent -28.499,-8.445 28.499,8.446

## KEYSTONE_2462 [mm] "THD Battery Holder for 2 Cell AA, LR6, HR6, L91 Cylindrical Batteties"
height 16
pads (4):
  round 2.2 hole 1.5 unplated: 1(27.165,-7.495) 2(27.165,7.495)
  rect 0x0 hole 3.3 unplated: MECH(-0.015,-7.495) MECH(-0.015,7.495)
Top Overlay:
  circle w0.2: c-0.025,7.5 r1.753
  circle w0.2: c-0.015,-7.495 r1.753
  lines w0.2: -28.455,6.618 -28.455,3.025 -26.685,3.025 -26.685,5.225 ; -28.455,8.432 -28.455,12.025 -26.685,12.025 -26.685,9.825 ; -28.45,-8.407 -28.45,-12 -26.68,-12 -26.68,-9.8 ; -28.45,-6.593 -28.45,-3 -26.68,-3 -26.68,-5.2 ; -27.89,3.025 -27.89,6.247 ; -27.89,8.803 -27.89,12.025 ; -27.885,-12 -27.885,-8.778 ; -27.885,-6.222 -27.885,-3 ; -27.38,3.025 -27.38,6.177 ; -27.38,5.225 -24.57,5.225 -24.57,9.825 -27.38,9.825 ; -27.38,8.873 -27.38,12.025 ; -27.375,-12 -27.375,-8.848 ; -27.375,-9.8 -24.566,-9.8 -24.566,-5.2 -27.375,-5.2 ; -27.375,-6.152 -27.375,-3 ; 26.635,5.225 26.635,3.025 28.405,3.025 28.405,6.618 ; 26.635,9.825 26.635,12.025 28.405,12.025 28.405,8.432 ; 26.64,-9.8 26.64,-12 28.41,-12 28.41,-8.407 ; 26.64,-5.2 26.64,-3 28.41,-3 28.41,-6.593 ; 27.33,3.025 27.33,6.177 ; 27.33,5.225 24.52,5.225 24.52,9.825 27.33,9.825 ; 27.33,8.873 27.33,12.025 ; 27.335,-12 27.335,-8.848 ; 27.335,-9.8 24.525,-9.8 24.525,-5.2 27.335,-5.2 ; 27.335,-6.152 27.335,-3 ; 27.84,3.025 27.84,6.247 ; 27.84,8.803 27.84,12.025 ; 27.845,-12 27.845,-8.778 ; 27.845,-6.222 27.845,-3 ; -30,-16.5 -30,16.5 29.8,16.5 29.8,-16.5 -30,-16.5 ; -26.685,4.57 26.635,4.57 -26.685,4.57 ; -26.685,10.48 26.635,10.48 -26.685,10.48 ; -26.68,-10.455 26.64,-10.455 -26.68,-10.455 ; -26.68,-4.545 26.64,-4.545 -26.68,-4.545 ; -7.977,6.325 -6.077,6.325 -6.077,5.525 6.027,5.525 6.027,9.525 -6.077,9.525 -6.077,8.725 -7.977,8.725 -7.977,6.325 ; -7.477,6.825 -6.077,6.825 -6.077,8.225 -7.477,8.225 -7.477,6.825 ; -6.073,-9.5 -6.073,-5.5 6.032,-5.5 6.032,-6.3 7.932,-6.3 7.932,-8.7 6.032,-8.7 6.032,-9.5 -6.073,-9.5 ; -4.625,7.275 -3.775,7.275 -3.775,6.425 -3.275,6.425 -3.275,7.275 -2.425,7.275 -2.425,7.775 -3.275,7.775 -3.275,8.625 -3.775,8.625 -3.775,7.775 -4.625,7.775 -4.625,7.275 ; -4.62,-7.75 -4.62,-7.25 -2.42,-7.25 -2.42,-7.75 -4.62,-7.75 ; 2.375,7.275 4.575,7.275 4.575,7.775 2.375,7.775 2.375,7.275 ; 2.38,-7.75 2.38,-7.25 3.23,-7.25 3.23,-6.4 3.73,-6.4 3.73,-7.25 4.58,-7.25 4.58,-7.75 3.73,-7.75 3.73,-8.6 3.23,-8.6 3.23,-7.75 2.38,-7.75 ; 6.032,-8.2 7.432,-8.2 7.432,-6.8 6.032,-6.8 6.032,-8.2 ; 20.834,7.37 22.422,7.37 23.755,7.37 23.755,7.624 22.422,7.624 20.834,7.624 20.834,7.37 ; 20.914,-7.622 20.914,-7.368 22.247,-7.368 22.247,-6.035 22.501,-6.035 22.501,-7.368 23.835,-7.368 23.835,-7.622 22.501,-7.622 22.501,-8.956 22.247,-8.956 22.247,-7.622 20.914,-7.622
Mechanical 1:
  circle w0.1: c-0.025,7.5 r1.7
  circle w0.1: c-0.018,-7.493 r1.7
  lines w0.1: -28.457,6.624 -28.457,3.031 -26.687,3.031 -26.687,5.231 ; -28.457,8.438 -28.457,12.031 -26.687,12.031 -26.687,9.831 ; -28.453,-8.401 -28.453,-11.994 -26.683,-11.994 -26.683,-9.794 ; -28.453,-6.587 -28.453,-2.994 -26.683,-2.994 -26.683,-5.194 ; -27.892,3.031 -27.892,6.253 ; -27.892,8.809 -27.892,12.031 ; -27.888,-11.994 -27.888,-8.772 ; -27.888,-6.216 -27.888,-2.994 ; -27.382,3.031 -27.382,6.183 ; -27.382,5.231 -24.573,5.231 -24.573,9.831 -27.382,9.831 ; -27.382,8.879 -27.382,12.031 ; -27.378,-11.994 -27.378,-8.842 ; -27.378,-9.794 -24.568,-9.794 -24.568,-5.194 -27.378,-5.194 ; -27.378,-6.146 -27.378,-2.994 ; 21.854,7.373 23.441,7.373 ; 21.854,7.627 23.441,7.627 ; 26.633,5.231 26.633,3.031 28.403,3.031 28.403,6.624 ; 26.633,9.831 26.633,12.031 28.403,12.031 28.403,8.438 ; 26.637,-9.794 26.637,-11.994 28.407,-11.994 28.407,-8.401 ; 26.637,-5.194 26.637,-2.994 28.407,-2.994 28.407,-6.587 ; 27.328,3.031 27.328,6.183 ; 27.328,5.231 24.518,5.231 24.518,9.831 27.328,9.831 ; 27.328,8.879 27.328,12.031 ; 27.332,-11.994 27.332,-8.842 ; 27.332,-9.794 24.523,-9.794 24.523,-5.194 27.332,-5.194 ; 27.332,-6.146 27.332,-2.994 ; 27.838,3.031 27.838,6.253 ; 27.838,8.809 27.838,12.031 ; 27.842,-11.994 27.842,-8.772 ; 27.842,-6.216 27.842,-2.994 ; -26.687,4.576 26.633,4.576 -26.687,4.576 ; -26.687,10.486 26.633,10.486 -26.687,10.486 ; -26.683,-10.449 26.637,-10.449 -26.683,-10.449 ; -26.683,-4.539 26.637,-4.539 -26.683,-4.539 ; -7.979,6.331 -6.079,6.331 -6.079,5.531 6.025,5.531 6.025,9.531 -6.079,9.531 -6.079,8.731 -7.979,8.731 -7.979,6.331 ; -7.479,6.831 -6.079,6.831 -6.079,8.231 -7.479,8.231 -7.479,6.831 ; -6.075,-9.494 6.029,-9.494 6.029,-8.694 7.929,-8.694 7.929,-6.294 6.029,-6.294 6.029,-5.494 -6.075,-5.494 -6.075,-9.494 ; -4.627,7.281 -3.777,7.281 -3.777,6.431 -3.277,6.431 -3.277,7.281 -2.427,7.281 -2.427,7.781 -3.277,7.781 -3.277,8.631 -3.777,8.631 -3.777,7.781 -4.627,7.781 -4.627,7.281 ; -4.623,-7.744 -4.623,-7.244 -2.423,-7.244 -2.423,-7.744 -4.623,-7.744 ; 2.373,7.281 4.573,7.281 4.573,7.781 2.373,7.781 2.373,7.281 ; 2.377,-7.744 2.377,-7.244 3.227,-7.244 3.227,-6.394 3.727,-6.394 3.727,-7.244 4.577,-7.244 4.577,-7.744 3.727,-7.744 3.727,-8.594 3.227,-8.594 3.227,-7.744 2.377,-7.744 ; 6.029,-8.194 7.429,-8.194 7.429,-6.794 6.029,-6.794 6.029,-8.194 ; 20.832,7.376 22.419,7.376 23.753,7.376 23.753,7.63 22.419,7.63 20.832,7.63 20.832,7.376 ; 20.911,-7.616 20.911,-7.362 22.245,-7.362 22.245,-6.029 22.499,-6.029 22.499,-7.362 23.832,-7.362 23.832,-7.616 22.499,-7.616 22.499,-8.95 22.245,-8.95 22.245,-7.616 20.911,-7.616
  lines w0.2: -29.959,-16.459 29.755,-16.459 29.755,16.459 -29.959,16.459 -29.959,-16.459
Mechanical 15:
  lines w0.1: -1,0 1,0 ; 0,-1 0,1 ; -30,-16.5 -30,16.5 29.8,16.5 29.8,-16.5 -30,-16.5
3D body "Keystone 2462 Twin AA.STEP": height 16, standoff -11.99, extent -29.959,-16.459 29.755,16.459

## KEYSTONE_2466 [mm] "THD Battery Holder for AAA, LR03 Cylindrical Batteties Size"
height 14.39
pads (2):
  round 1.8 hole 1.1: 1(-22.35,0) 2(22.35,0)
Top Overlay:
  lines w0.2: -23.431,-6.5 -23.431,-0.625 ; -23.431,-5.563 -21.399,-5.563 ; -23.431,-0.888 -23.229,-0.888 ; -23.431,0.625 -23.431,6.5 ; -23.431,0.89 -23.227,0.89 ; -23.431,5.563 -21.399,5.563 ; -22.938,-1.103 -22.938,-1.649 ccw(c-22.532,-1.647) -22.125,-1.644 ; -22.938,1.103 -22.938,1.652 ; -22.938,1.651 cw(c-22.532,1.652) -22.125,1.651 ; -22.125,-1.649 -22.125,-1.23 ; -22.125,1.23 -22.125,1.652 ; -22.112,-1.227 -22.112,-2.032 ccw(c-23.011,-1.157) -21.756,-1.137 -21.756,-1.1 ; -22.112,1.227 -22.112,2.032 cw(c-23.004,1.16) -21.756,1.138 -21.756,1.1 ; -21.446,6.502 -21.399,4.686 ccw(c-19.822,4.689) -19.825,3.111 -10.312,3.111 ccw(c-10.315,4.689) -8.738,4.686 -8.738,6.502 ; -21.399,-6.502 -21.399,-4.686 cw(c-19.822,-4.689) -19.825,-3.111 -10.312,-3.111 cw(c-10.313,-4.687) -8.738,-4.686 -8.738,-6.5 ; -8.738,-5.563 8.738,-5.563 ; -8.738,5.563 8.738,5.563 ; 8.738,-6.5 8.738,-4.686 cw(c10.313,-4.687) 10.312,-3.112 19.825,-3.111 cw(c19.824,-4.687) 21.399,-4.686 21.399,-6.502 ; 8.738,6.502 8.738,4.686 ccw(c10.315,4.689) 10.312,3.111 19.825,3.111 ccw(c19.824,4.687) 21.399,4.686 21.399,6.502 ; 16.661,-0.127 13.906,-0.127 13.906,0.127 16.661,0.127 ; 17.254,-2.317 17.999,1.18 ; 17.261,0.593 17.733,2.809 cw(c18.026,2.746) 18.322,2.798 ; 18.76,-3.111 17.731,2.694 cw(c18.026,2.746) 18.322,2.798 ; 19.156,-1.906 19.961,3.117 ; 19.37,-3.111 18.322,2.798 ; 19.57,-3.111 20.6,3.316 ; 20.302,1.452 20.967,-3.603 ; 20.657,3.35 21.615,-3.928 cw(c21.318,-3.967) 21.342,-4.266 ; 21.294,-1.486 21.373,-0.78 ; 21.399,-5.563 23.431,-5.563 ; 21.399,5.563 23.431,5.563 ; 21.569,0.976 21.898,3.909 cw(c22.196,3.876) 22.494,3.842 22.203,1.241 ; 21.616,-4 21.932,-1.178 ; 22.411,-1.249 22.733,-4.443 ccw(c23.032,-4.413) 23.33,-4.383 22.996,-1.07 ; 22.495,3.906 22.77,1.177 ; 22.892,1.126 22.941,2.823 cw(c23.241,2.814) 23.431,3.046 ; 23.331,-4.422 23.431,-0.972 ; 23.431,-6.5 23.431,-0.627 ; 23.431,0.627 23.431,6.5 ; -24.995,-6.5 24.995,-6.5 24.995,6.5 -24.995,6.5 -24.995,-6.5 ; -15.938,-0.127 -14.478,-0.127 -14.478,-1.714 -14.224,-1.714 -14.224,-0.127 -12.763,-0.127 -12.763,0.127 -14.224,0.127 -14.224,1.46 -14.478,1.46 -14.478,0.127 -15.938,0.127 -15.938,-0.127 ; -11.493,-0.953 -10.223,-0.953 -10.223,-2.349 12.636,-2.349 12.636,2.349 -10.223,2.349 -10.223,0.953 -11.493,0.953 -11.493,-0.953 ; 16.661,-2.254 ccw(c16.961,-2.254) 17.261,-2.254 17.261,2.748 ccw(c16.961,2.748) 16.661,2.748 16.661,-2.254
Mechanical 1:
  lines w0.1: -23.431,-6.5 -23.431,6.5 ; -23.431,-5.563 -21.399,-5.563 ; -23.431,-0.888 -22.938,-0.888 ; -23.431,0.89 -22.938,0.89 ; -23.431,5.563 -21.399,5.563 ; -22.938,1.651 cw(c-22.532,1.652) -22.125,1.651 ; -22.938,1.652 -22.938,-1.649 ccw(c-22.532,-1.647) -22.125,-1.644 ; -22.125,-1.649 -22.125,1.652 ; -21.446,6.502 -21.399,4.686 ccw(c-19.822,4.689) -19.825,3.111 -10.312,3.111 ccw(c-10.315,4.689) -8.738,4.686 -8.738,6.502 ; -21.399,-6.502 -21.399,-4.686 cw(c-19.822,-4.689) -19.825,-3.111 -10.312,-3.111 cw(c-10.313,-4.687) -8.738,-4.686 -8.738,-6.5 ; -8.738,-5.563 8.738,-5.563 ; -8.738,5.563 8.738,5.563 ; 8.738,-6.5 8.738,-4.686 cw(c10.313,-4.687) 10.312,-3.112 19.825,-3.111 cw(c19.824,-4.687) 21.399,-4.686 21.399,-6.502 ; 8.738,6.502 8.738,4.686 ccw(c10.315,4.689) 10.312,3.111 19.825,3.111 ccw(c19.824,4.687) 21.399,4.686 21.399,6.502 ; 17.254,-2.317 17.999,1.18 ; 17.261,0.593 17.733,2.809 cw(c18.026,2.746) 18.322,2.798 ; 18.76,-3.111 17.731,2.694 cw(c18.026,2.746) 18.322,2.798 ; 19.156,-1.906 19.961,3.117 ; 19.37,-3.111 18.322,2.798 ; 19.57,-3.111 20.6,3.316 ; 20.302,1.452 20.967,-3.603 ; 20.657,3.35 21.615,-3.928 cw(c21.318,-3.967) 21.342,-4.266 ; 21.294,-1.486 21.898,3.909 cw(c22.196,3.876) 22.494,3.842 21.616,-4 ; 21.399,-5.563 23.431,-5.563 ; 21.399,5.563 23.431,5.563 ; 22.18,1.04 22.733,-4.443 ccw(c23.032,-4.413) 23.33,-4.383 22.495,3.906 ; 22.866,0.222 22.941,2.823 cw(c23.241,2.814) 23.431,3.046 ; 23.331,-4.422 23.431,-0.972 ; 23.431,-6.5 23.431,6.5 ; -24.995,-6.5 -24.995,6.5 24.995,6.5 24.995,-6.5 -24.995,-6.5 ; -22.112,-2.032 ccw(c-23.011,-1.157) -21.756,-1.137 -21.756,1.138 ccw(c-23.004,1.16) -22.112,2.032 -22.112,-2.032 ; -15.938,-0.127 -14.478,-0.127 -14.478,-1.714 -14.224,-1.714 -14.224,-0.127 -12.763,-0.127 -12.763,0.127 -14.224,0.127 -14.224,1.46 -14.478,1.46 -14.478,0.127 -15.938,0.127 -15.938,-0.127 ; -11.493,-0.953 -10.223,-0.953 -10.223,-2.349 12.636,-2.349 12.636,2.349 -10.223,2.349 -10.223,0.953 -11.493,0.953 -11.493,-0.953 ; 13.906,-0.127 13.906,0.127 17.081,0.127 17.081,-0.127 13.906,-0.127 ; 16.661,-2.254 ccw(c16.961,-2.254) 17.261,-2.254 17.261,2.748 ccw(c16.961,2.748) 16.661,2.748 16.661,-2.254
Mechanical 15:
  lines w0.1: -0.5,0 0,0 ; 0,-0.5 0,0 ; 0,0.5 0,0 ; 0.5,0 0,0 ; -25,-6.5 -25,6.5 24.99,6.5 24.99,-6.5 -25,-6.5
3D body "BATH_KEYSTONE_2466.stp": height 12.7, standoff -14.99, extent -24.701,-6.502 24.702,6.502

## KEYSTONE_2998 [mm] "SMD Battery Holder for SR60, SR66, SR621, LR621, MC621, V364, SC621, DR13H, D377, V13AT Coin Cells"
height 3.175
pads (3):
  rect 1.8x5.1 smd: 1(-4.7,0) 1(4.7,0)
  rrect50% 5.1x5.1 smd paste-2.55: 2(0,0)
Top Overlay:
  lines w0.2: -3.699,2.95 -3.699,3.34 cw(c-3.064,3.34) -2.621,3.795 ccw(c0,6.49) -0.938,2.849 ; -3.4,-2.597 -2.502,-3.518 -2.502,-4.026 2.502,-4.026 2.502,-3.518 3.4,-2.597 ; 0.938,2.849 ccw(c0,6.49) 2.621,3.795 cw(c3.064,3.34) 3.699,3.34 3.699,2.95
Mechanical 1:
  circle w0.1: c-2.21,-0.422 r0.47
  circle w0.1: c2.21,-0.422 r0.47
  lines w0.1: -3.699,2.502 -3.699,3.34 cw(c-3.064,3.34) -2.621,3.795 ccw(c0,6.49) 2.621,3.795 cw(c3.064,3.34) 3.699,3.34 3.699,2.502 ; -2.997,1.943 -2.997,-0.419 ccw(c-2.21,-0.419) -1.422,-0.419 -1.422,1.943 ; 1.422,1.943 1.422,-0.419 ccw(c2.21,-0.419) 2.997,-0.419 2.997,1.943 2.997,-0.407 ; -3.492,-2.502 -5.357,-2.502 -5.357,-1.587 ccw(c-5.357,-0.775) -5.357,0.038 -5.357,1.45 -4.305,2.502 -3.492,2.502 -3.492,-2.502 ; -3.492,-2.502 -2.502,-3.518 -2.502,-4.026 2.502,-4.026 2.502,-3.518 3.493,-2.502 ; 3.493,-2.502 5.357,-2.502 5.357,-1.587 cw(c5.357,-0.775) 5.357,0.038 5.357,1.45 4.305,2.502 3.493,2.502 3.493,-2.502 ; -1.181,-2.286 -1.181,-2.134 -0.076,-2.134 -0.076,-1.029 0.076,-1.029 0.076,-2.134 1.181,-2.134 1.181,-2.286 0.076,-2.286 0.076,-3.391 -0.076,-3.391 -0.076,-2.286 -1.181,-2.286
Mechanical 15:
  lines w0.1: -0.5,0 0,0 ; 0,-0.5 0,0 ; 0,0.5 0,0 ; 0.5,0 0,0 ; -5.85,-2.8 -3.551,-2.8 -2.752,-3.62 -2.752,-4.276 2.752,-4.276 2.752,-3.62 3.551,-2.8 5.6,-2.8 5.6,2.8 3.949,2.8 3.949,3.34 ccw(c3.064,3.34) 3.064,4.225 -3.064,4.225 ccw(c-3.064,3.34) -3.949,3.34 -3.949,2.8 -5.85,2.8 -5.85,-2.8
3D body "BATH_KEYSTONE_2998.stp": height 2.9, standoff 0, extent -5.357,-4.026 5.357,3.975